# EAGLE library part BM10B-SRSS-TB (library Con_JST_SH)
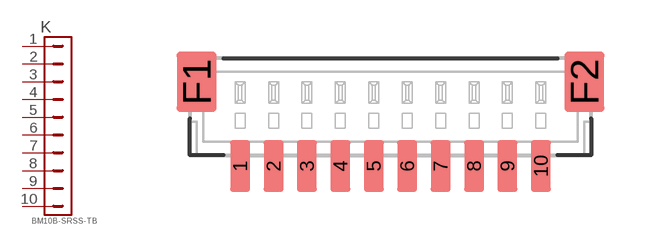
[diagram p4: symbol with the pads of BM10B-SRSS-TB; footprint BM10B-SRSS-TB]

Designator prefix K

## BM10B-SRSS-TB  [BM10B-SRSS-TB]
1  1  pas
2  2  pas
3  3  pas
4  4  pas
5  5  pas
6  6  pas
7  7  pas
8  8  pas
9  9  pas
10  10  pas

## Footprint BM10B-SRSS-TB (pad centres in mm)
smd 0.6 x 1.55: 1 -4.5,-1.325; 2 -3.5,-1.325; 3 -2.5,-1.325; 4 -1.5,-1.325; 5 -0.5,-1.325; 6 0.5,-1.325; 7 1.5,-1.325; 8 2.5,-1.325; 9 3.5,-1.325; 10 4.5,-1.325
smd 1.2 x 1.8: F1 -5.8,1.2; F2 5.8,1.2